# Altium schematic symbol library 1N4002..SchLib: 1 symbol
Pins are listed as number, name and electrical type; pins without a type are passive.

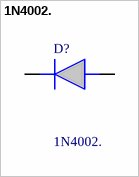
[diagram p0: symbol 1N4002.]

## 1N4002.
designator D?
DIODE, STANDARD RECOVERY, 1A, 100V, DO-2; Manufacturer_Name: Multicomp Pro; Manufacturer_Part_Number: 1N4002.; Mouser Part Number: *; Mouser Price/Stock: *; Arrow Part Number: *; Arrow Price/Stock: *; Datasheet Link: http://www.farnell.com/datasheets/2861322.pdf
footprint DIOAD1550W90L510D260
pins: 1 K, 2 A